# Altium schematic symbol library Analog devices.SchLib: 1 symbol
Pins are listed as number, name and electrical type; pins without a type are passive.

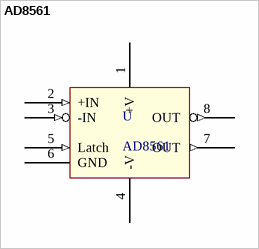
[diagram p0: symbol AD8561]

## AD8561
designator U
Ultrafast 7 ns  Single Supply Comparator
footprint SOIC127P600-8L (SOIC, 8-Leads, Body 4.9x3.9mm, Pitch 1.27mm, IPC High Density)
pins: 1 +V (power), 2 +IN (in), 3 -IN (in), 4 -V (power), 5 Latch (in), 6 GND (power), 7 OUT (out), 8 OUT (out)